# EAGLE library part CONN_USBC_14P (library GPLIB_CONN)
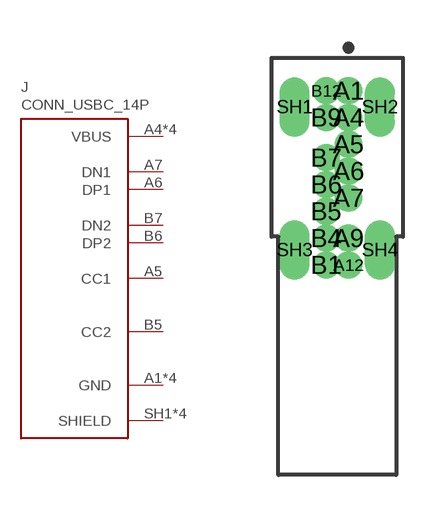
[diagram p13: symbol with the pads of CONN_USBC_14P_SIDE_ENTRY_GT-USB-7036C; footprint CONN_USBC_14P_SIDE_ENTRY_GT-USB-7036C]

Designator prefix J

## CONN_USBC_14P_SIDE_ENTRY_TH_GT-USB-7036C  [CONN_USBC_14P_SIDE_ENTRY_GT-USB-7036C]
A1  GND  pwr
A4  VBUS  pwr
A5  CC1
A6  DP1
A7  DN1
A9  VBUS  pwr
A12  GND  pwr
B1  GND  pwr
B4  VBUS  pwr
B5  CC2
B6  DP2
B7  DN2
B9  VBUS  pwr
B12  GND  pwr
SH1  SHIELD  pwr
SH2  SHIELD  pwr
SH3  SHIELD  pwr
SH4  SHIELD  pwr

## Footprint CONN_USBC_14P_SIDE_ENTRY_GT-USB-7036C (pad centres in mm)
drill 0.4 pad 0.6: A1 0.375,12.9; A4 0.375,12; A5 0.375,11.1; A6 0.375,10.2; A7 0.375,9.3; A9 0.375,7.95; A12 0.375,7.05; B1 -0.375,7.05; B4 -0.375,7.95; B5 -0.375,8.85; B6 -0.375,9.75; B7 -0.375,10.65; B9 -0.375,12; B12 -0.375,12.9
drill 0.5 pad 0.9 slot 1.5 rotated 90: SH1 -1.43,12.35; SH2 1.43,12.35; SH3 -1.43,7.55; SH4 1.43,7.55